# EAGLE library part STECKER_BOSCH_88-PIN_ASYM (library k-data Mechanik)
Bosch Stecker 88 pol. asymmetrisch für BMW Motorsteuergerät (0 261 200 520)
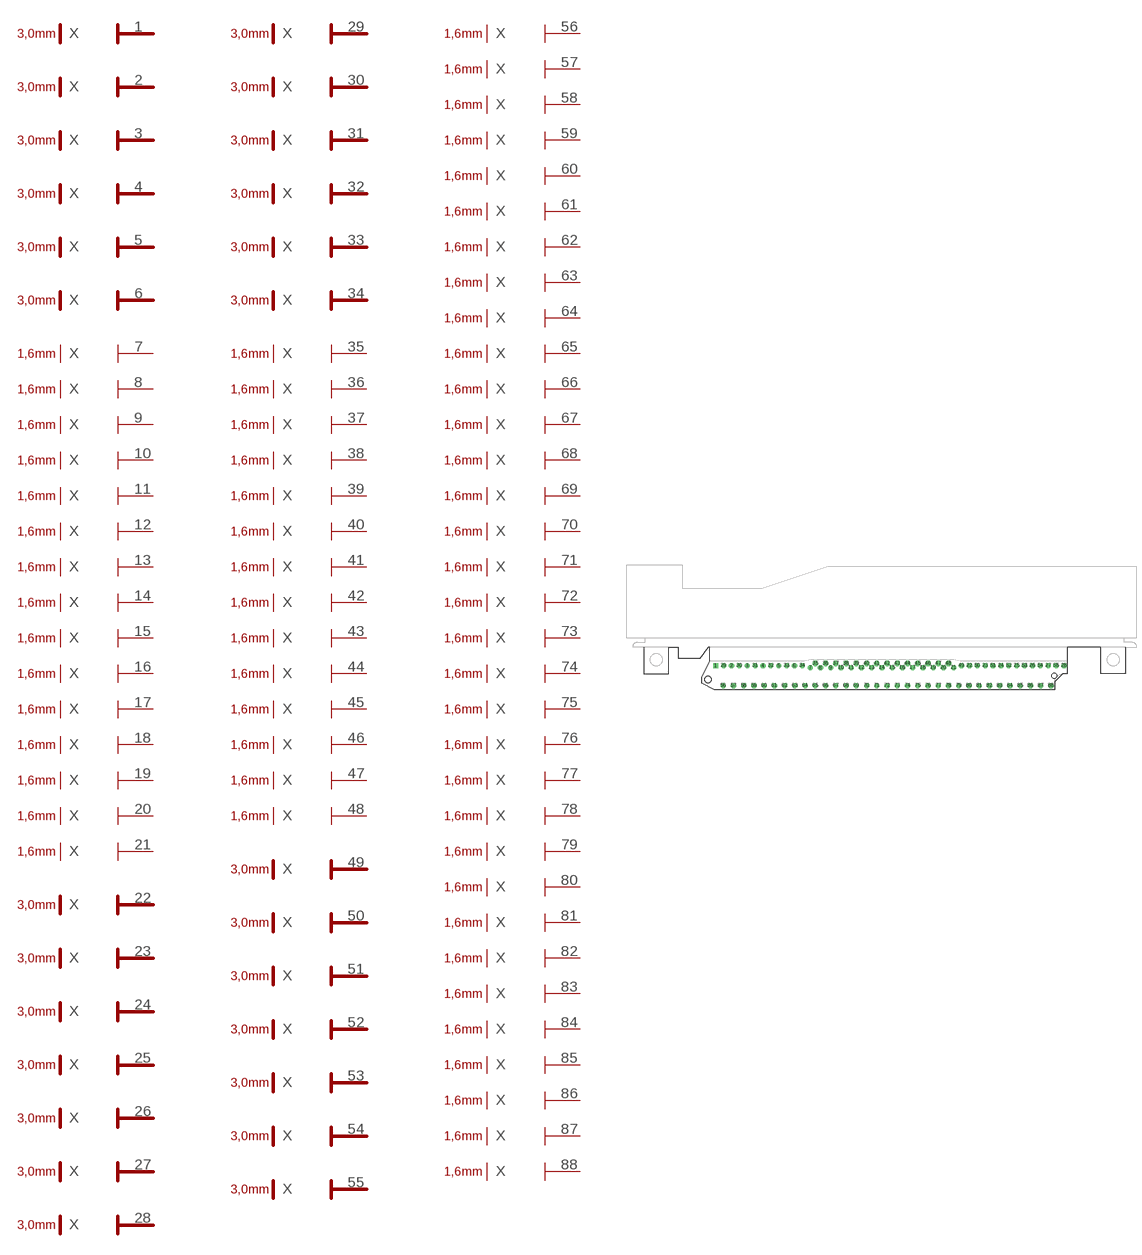
[diagram p4: symbol with the pads of STECKER_BOSCH_88-PIN_ASYM; footprint STECKER_BOSCH_88-PIN_ASYM]

Designator prefix X; gates -1=CONNECTOR-3,0MM -2=CONNECTOR-3,0MM -3=CONNECTOR-3,0MM -4=CONNECTOR-3,0MM -5=CONNECTOR-3,0MM -6=CONNECTOR-3,0MM -7=CONNECTOR-1,6MM -8=CONNECTOR-1,6MM -9=CONNECTOR-1,6MM -10=CONNECTOR-1,6MM -11=CONNECTOR-1,6MM -12=CONNECTOR-1,6MM -13=CONNECTOR-1,6MM -14=CONNECTOR-1,6MM -15=CONNECTOR-1,6MM -16=CONNECTOR-1,6MM -17=CONNECTOR-1,6MM -18=CONNECTOR-1,6MM -19=CONNECTOR-1,6MM -20=CONNECTOR-1,6MM -21=CONNECTOR-1,6MM -22=CONNECTOR-3,0MM -23=CONNECTOR-3,0MM -24=CONNECTOR-3,0MM -25=CONNECTOR-3,0MM -26=CONNECTOR-3,0MM -27=CONNECTOR-3,0MM -28=CONNECTOR-3,0MM -29=CONNECTOR-3,0MM -30=CONNECTOR-3,0MM -31=CONNECTOR-3,0MM -32=CONNECTOR-3,0MM -33=CONNECTOR-3,0MM -34=CONNECTOR-3,0MM -35=CONNECTOR-1,6MM -36=CONNECTOR-1,6MM -37=CONNECTOR-1,6MM -38=CONNECTOR-1,6MM -39=CONNECTOR-1,6MM -40=CONNECTOR-1,6MM -41=CONNECTOR-1,6MM -42=CONNECTOR-1,6MM -43=CONNECTOR-1,6MM -44=CONNECTOR-1,6MM -45=CONNECTOR-1,6MM -46=CONNECTOR-1,6MM -47=CONNECTOR-1,6MM -48=CONNECTOR-1,6MM -49=CONNECTOR-3,0MM -50=CONNECTOR-3,0MM -51=CONNECTOR-3,0MM -52=CONNECTOR-3,0MM -53=CONNECTOR-3,0MM -54=CONNECTOR-3,0MM -55=CONNECTOR-3,0MM -56=CONNECTOR-1,6MM -57=CONNECTOR-1,6MM -58=CONNECTOR-1,6MM -59=CONNECTOR-1,6MM -60=CONNECTOR-1,6MM -61=CONNECTOR-1,6MM -62=CONNECTOR-1,6MM -63=CONNECTOR-1,6MM -64=CONNECTOR-1,6MM -65=CONNECTOR-1,6MM -66=CONNECTOR-1,6MM -67=CONNECTOR-1,6MM -68=CONNECTOR-1,6MM -69=CONNECTOR-1,6MM -70=CONNECTOR-1,6MM -71=CONNECTOR-1,6MM -72=CONNECTOR-1,6MM -73=CONNECTOR-1,6MM -74=CONNECTOR-1,6MM -75=CONNECTOR-1,6MM -76=CONNECTOR-1,6MM -77=CONNECTOR-1,6MM -78=CONNECTOR-1,6MM -79=CONNECTOR-1,6MM -80=CONNECTOR-1,6MM -81=CONNECTOR-1,6MM -82=CONNECTOR-1,6MM -83=CONNECTOR-1,6MM -84=CONNECTOR-1,6MM -85=CONNECTOR-1,6MM -86=CONNECTOR-1,6MM -87=CONNECTOR-1,6MM -88=CONNECTOR-1,6MM

## STECKER_BOSCH_88-PIN_ASYM  [STECKER_BOSCH_88-PIN_ASYM]
1  -1:1
2  -2:1
3  -3:1
4  -4:1
5  -5:1
6  -6:1
7  -7:1
8  -8:1
9  -9:1
10  -10:1
11  -11:1
12  -12:1
13  -13:1
14  -14:1
15  -15:1
16  -16:1
17  -17:1
18  -18:1
19  -19:1
20  -20:1
21  -21:1
22  -22:1
23  -23:1
24  -24:1
25  -25:1
26  -26:1
27  -27:1
28  -28:1
29  -29:1
30  -30:1
31  -31:1
32  -32:1
33  -33:1
34  -34:1
35  -35:1
36  -36:1
37  -37:1
38  -38:1
39  -39:1
40  -40:1
41  -41:1
42  -42:1
43  -43:1
44  -44:1
45  -45:1
46  -46:1
47  -47:1
48  -48:1
49  -49:1
50  -50:1
51  -51:1
52  -52:1
53  -53:1
54  -54:1
55  -55:1
56  -56:1
57  -57:1
58  -58:1
59  -59:1
60  -60:1
61  -61:1
62  -62:1
63  -63:1
64  -64:1
65  -65:1
66  -66:1
67  -67:1
68  -68:1
69  -69:1
70  -70:1
71  -71:1
72  -72:1
73  -73:1
74  -74:1
75  -75:1
76  -76:1
77  -77:1
78  -78:1
79  -79:1
80  -80:1
81  -81:1
82  -82:1
83  -83:1
84  -84:1
85  -85:1
86  -86:1
87  -87:1
88  -88:1

## Footprint STECKER_BOSCH_88-PIN_ASYM (pad centres in mm)
Bosch Stecker 88 pol. Pos-Zapfen asymmetrisch (0 261 200 520)
drill 1.1 pad 1.6 square: 1 -53.6,-8.85
drill 1.1 pad 1.6 octagon: 2 -48.6,-8.85; 3 -43.6,-8.85; 4 -38.6,-8.85; 5 -33.6,-8.85; 6 -28.6,-8.85; 7 -23.6,-9.5; 8 -20.35,-9.5; 9 -17.1,-9.5; 10 -13.85,-9.5; 11 -10.6,-9.5; 12 -7.35,-9.5; 13 -4.1,-9.5; 14 -0.85,-9.5; 15 2.4,-9.5; 16 5.65,-9.5; 17 8.9,-9.5; 18 12.15,-9.5; 19 15.4,-9.5; 20 18.65,-9.5; 21 21.9,-9.5; 22 26.9,-8.85; 23 31.9,-8.85; 24 36.9,-8.85; 25 41.9,-8.85; 26 46.9,-8.85; 27 51.9,-8.85; 28 56.9,-8.85; 29 -51.1,-8.85; 30 -46.1,-8.85; 31 -41.1,-8.85; 32 -36.1,-8.85; 33 -31.1,-8.85; 34 -26.1,-8.85; 35 -21.975,-8.2; 36 -18.725,-8.2; 37 -15.475,-8.2; 38 -12.225,-8.2; 39 -8.975,-8.2; 40 -5.725,-8.2; 41 -2.475,-8.2; 42 0.775,-8.2; 43 4.025,-8.2; 44 7.275,-8.2; 45 10.525,-8.2; 46 13.775,-8.2; 47 17.025,-8.2; 48 20.275,-8.2; 49 24.4,-8.85; 50 29.4,-8.85; 51 34.4,-8.85; 52 39.4,-8.85; 53 44.4,-8.85; 54 49.4,-8.85; 55 54.4,-8.85; 56 -51.225,-15.2; 57 -47.975,-15.2; 58 -44.725,-15.2; 59 -41.475,-15.2; 60 -38.225,-15.2; 61 -34.975,-15.2; 62 -31.725,-15.2; 63 -28.475,-15.2; 64 -25.225,-15.2; 65 -21.975,-15.2; 66 -18.725,-15.2; 67 -15.475,-15.2; 68 -12.225,-15.2; 69 -8.975,-15.2; 70 -5.725,-15.2; 71 -2.475,-15.2; 72 0.775,-15.2; 73 4.025,-15.2; 74 7.275,-15.2; 75 10.525,-15.2; 76 13.775,-15.2; 77 17.025,-15.2; 78 20.275,-15.2; 79 23.525,-15.2; 80 26.775,-15.2; 81 30.025,-15.2; 82 33.275,-15.2; 83 36.525,-15.2; 84 39.775,-15.2; 85 43.025,-15.2; 86 46.275,-15.2; 87 49.525,-15.2; 88 52.775,-15.2
hole 2.1 at -56,-13.3
hole 1.6 at 53.8,-12